# Altium footprint library SMD.PcbLib: 86 footprints (part 2 of 6)
Each footprint in its own frame and in the unit in brackets; x right, y up, seen from the top. Pads: shape width x height; smd on the part's side, far side on the other; paste and mask are expansions set on the pad; w line width, h text height; cw(c..) or ccw(c..) is an arc to the next point about the centre after c.
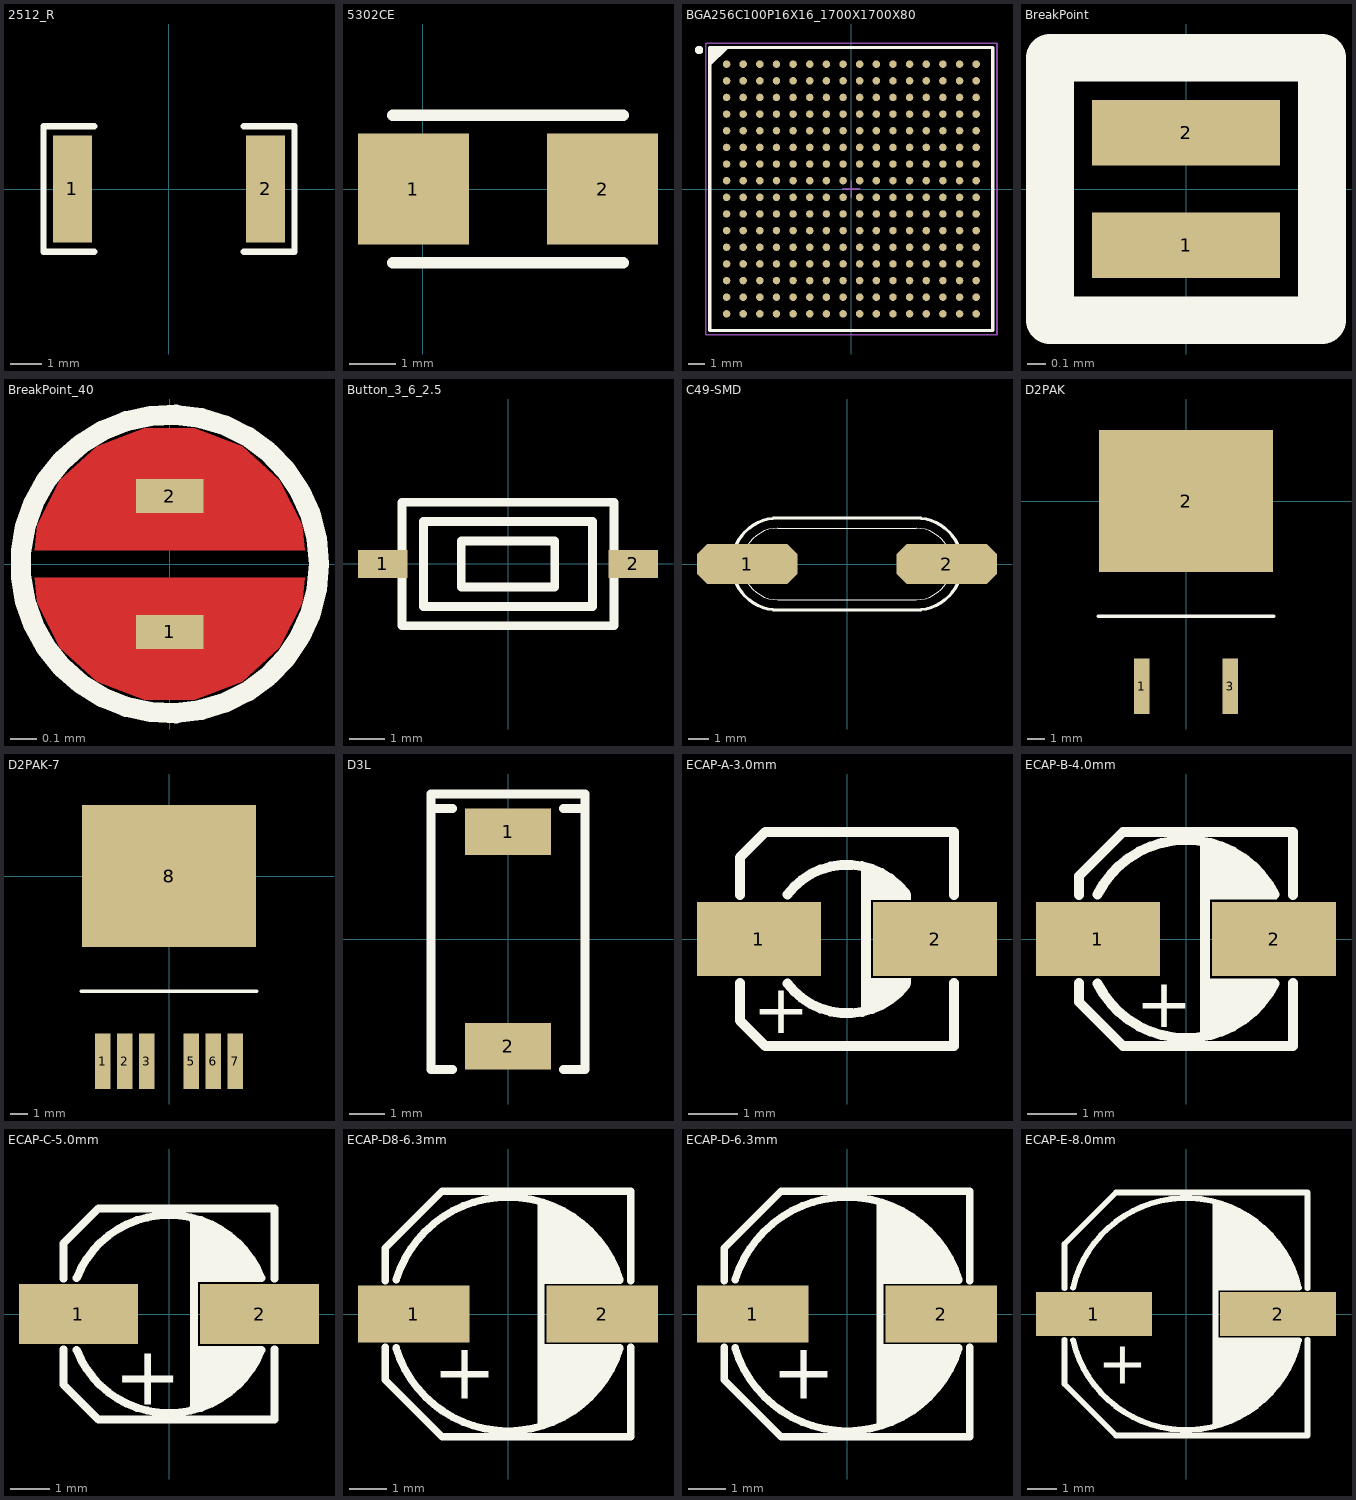
[diagram p1: the footprints below, top view; thin cyan lines are the x and y axes]

## 2512_R [mm]
pads (2):
  rect 1.25x3.42 smd: 1(-3.1,0) 2(3.1,0)
Top Overlay:
  lines w0.2: -2.4,-2.01 -4.025,-2.01 -4.025,2.01 -2.4,2.01 ; 2.4,-2.01 4.025,-2.01 4.025,2.01 2.4,2.01
3D body "User Library-res2512_body.STEP": height 0.62, standoff 0, extent -3.159,-1.6 3.16,1.6

## 5302CE [mm]
pads (2):
  rect 2.4x2.4 smd: 1(-0.2,0) 2(3.9,0)
Top Overlay:
  lines w0.254: -0.65,-1.6 4.35,-1.6 ; -0.65,1.6 4.35,1.6

## BGA256C100P16X16_1700X1700X80 [mm] "BGA, 256-Leads, Body 17.0x17.0mm,  Pitch 1.00mm"
height 0.8
pads (256):
  round 0.45 smd: A1(-7.5,7.5) A2(-6.5,7.5) A3(-5.5,7.5) A4(-4.5,7.5) A5(-3.5,7.5) A6(-2.5,7.5) A7(-1.5,7.5) A8(-0.5,7.5) A9(0.5,7.5) A10(1.5,7.5) A11(2.5,7.5) A12(3.5,7.5) A13(4.5,7.5) A14(5.5,7.5) A15(6.5,7.5) A16(7.5,7.5) B1(-7.5,6.5) B2(-6.5,6.5) B3(-5.5,6.5) B4(-4.5,6.5) B5(-3.5,6.5) B6(-2.5,6.5) B7(-1.5,6.5) B8(-0.5,6.5) B9(0.5,6.5) B10(1.5,6.5) B11(2.5,6.5) B12(3.5,6.5) B13(4.5,6.5) B14(5.5,6.5) B15(6.5,6.5) B16(7.5,6.5) C1(-7.5,5.5) C2(-6.5,5.5) C3(-5.5,5.5) C4(-4.5,5.5) C5(-3.5,5.5) C6(-2.5,5.5) C7(-1.5,5.5) C8(-0.5,5.5) C9(0.5,5.5) C10(1.5,5.5) C11(2.5,5.5) C12(3.5,5.5) C13(4.5,5.5) C14(5.5,5.5) C15(6.5,5.5) C16(7.5,5.5) D1(-7.5,4.5) D2(-6.5,4.5) D3(-5.5,4.5) D4(-4.5,4.5) D5(-3.5,4.5) D6(-2.5,4.5) D7(-1.5,4.5) D8(-0.5,4.5) D9(0.5,4.5) D10(1.5,4.5) D11(2.5,4.5) D12(3.5,4.5) D13(4.5,4.5) D14(5.5,4.5) D15(6.5,4.5) D16(7.5,4.5) E1(-7.5,3.5) E2(-6.5,3.5) E3(-5.5,3.5) E4(-4.5,3.5) E5(-3.5,3.5) E6(-2.5,3.5) E7(-1.5,3.5) E8(-0.5,3.5) E9(0.5,3.5) E10(1.5,3.5) E11(2.5,3.5) E12(3.5,3.5) E13(4.5,3.5) E14(5.5,3.5) E15(6.5,3.5) E16(7.5,3.5) F1(-7.5,2.5) F2(-6.5,2.5) F3(-5.5,2.5) F4(-4.5,2.5) F5(-3.5,2.5) F6(-2.5,2.5) F7(-1.5,2.5) F8(-0.5,2.5) F9(0.5,2.5) F10(1.5,2.5) F11(2.5,2.5) F12(3.5,2.5) F13(4.5,2.5) F14(5.5,2.5) F15(6.5,2.5) F16(7.5,2.5) G1(-7.5,1.5) G2(-6.5,1.5) G3(-5.5,1.5) G4(-4.5,1.5) G5(-3.5,1.5) G6(-2.5,1.5) G7(-1.5,1.5) G8(-0.5,1.5) G9(0.5,1.5) G10(1.5,1.5) G11(2.5,1.5) G12(3.5,1.5) G13(4.5,1.5) G14(5.5,1.5) G15(6.5,1.5) G16(7.5,1.5) H1(-7.5,0.5) H2(-6.5,0.5) H3(-5.5,0.5) H4(-4.5,0.5) H5(-3.5,0.5) H6(-2.5,0.5) H7(-1.5,0.5) H8(-0.5,0.5) H9(0.5,0.5) H10(1.5,0.5) H11(2.5,0.5) H12(3.5,0.5) H13(4.5,0.5) H14(5.5,0.5) H15(6.5,0.5) H16(7.5,0.5) J1(-7.5,-0.5) J2(-6.5,-0.5) J3(-5.5,-0.5) J4(-4.5,-0.5) J5(-3.5,-0.5) J6(-2.5,-0.5) J7(-1.5,-0.5) J8(-0.5,-0.5) J9(0.5,-0.5) J10(1.5,-0.5) J11(2.5,-0.5) J12(3.5,-0.5) J13(4.5,-0.5) J14(5.5,-0.5) J15(6.5,-0.5) J16(7.5,-0.5) K1(-7.5,-1.5) K2(-6.5,-1.5) K3(-5.5,-1.5) K4(-4.5,-1.5) K5(-3.5,-1.5) K6(-2.5,-1.5) K7(-1.5,-1.5) K8(-0.5,-1.5) K9(0.5,-1.5) K10(1.5,-1.5) K11(2.5,-1.5) K12(3.5,-1.5) K13(4.5,-1.5) K14(5.5,-1.5) K15(6.5,-1.5) K16(7.5,-1.5) L1(-7.5,-2.5) L2(-6.5,-2.5) L3(-5.5,-2.5) L4(-4.5,-2.5) L5(-3.5,-2.5) L6(-2.5,-2.5) L7(-1.5,-2.5) L8(-0.5,-2.5) L9(0.5,-2.5) L10(1.5,-2.5) L11(2.5,-2.5) L12(3.5,-2.5) L13(4.5,-2.5) L14(5.5,-2.5) L15(6.5,-2.5) L16(7.5,-2.5) M1(-7.5,-3.5) M2(-6.5,-3.5) M3(-5.5,-3.5) M4(-4.5,-3.5) M5(-3.5,-3.5) M6(-2.5,-3.5) M7(-1.5,-3.5) M8(-0.5,-3.5) M9(0.5,-3.5) M10(1.5,-3.5) M11(2.5,-3.5) M12(3.5,-3.5) M13(4.5,-3.5) M14(5.5,-3.5) M15(6.5,-3.5) M16(7.5,-3.5) N1(-7.5,-4.5) N2(-6.5,-4.5) N3(-5.5,-4.5) N4(-4.5,-4.5) N5(-3.5,-4.5) N6(-2.5,-4.5) N7(-1.5,-4.5) N8(-0.5,-4.5) N9(0.5,-4.5) N10(1.5,-4.5) N11(2.5,-4.5) N12(3.5,-4.5) N13(4.5,-4.5) N14(5.5,-4.5) N15(6.5,-4.5) N16(7.5,-4.5) P1(-7.5,-5.5) P2(-6.5,-5.5) P3(-5.5,-5.5) P4(-4.5,-5.5) P5(-3.5,-5.5) P6(-2.5,-5.5) P7(-1.5,-5.5) P8(-0.5,-5.5) P9(0.5,-5.5) P10(1.5,-5.5) P11(2.5,-5.5) P12(3.5,-5.5) P13(4.5,-5.5) P14(5.5,-5.5) P15(6.5,-5.5) P16(7.5,-5.5) R1(-7.5,-6.5) R2(-6.5,-6.5) R3(-5.5,-6.5) R4(-4.5,-6.5) R5(-3.5,-6.5) R6(-2.5,-6.5) R7(-1.5,-6.5) R8(-0.5,-6.5) R9(0.5,-6.5) R10(1.5,-6.5) R11(2.5,-6.5) R12(3.5,-6.5) R13(4.5,-6.5) R14(5.5,-6.5) R15(6.5,-6.5) R16(7.5,-6.5) T1(-7.5,-7.5) T2(-6.5,-7.5) T3(-5.5,-7.5) T4(-4.5,-7.5) T5(-3.5,-7.5) T6(-2.5,-7.5) T7(-1.5,-7.5) T8(-0.5,-7.5) T9(0.5,-7.5) T10(1.5,-7.5) T11(2.5,-7.5) T12(3.5,-7.5) T13(4.5,-7.5) T14(5.5,-7.5) T15(6.5,-7.5) T16(7.5,-7.5)
Top Overlay:
  circle w0.25: c-9.15,8.35 r0.125
  region: -7.5,8.5 -8.5,7.5 -8.5,8.5
  lines w0.2: -8.5,7.5 -7.5,8.5 ; -8.5,-8.5 8.5,-8.5 8.5,8.5 -8.5,8.5 -8.5,-8.5
Mechanical 13:
  lines w0.1: -8.5,-8.5 8.5,-8.5 8.5,8.5 -8.5,8.5 -8.5,-8.5
Mechanical 15:
  lines w0.1: -0.5,0 0.5,0 ; 0,-0.5 0,0.5 ; -8.75,-8.75 8.75,-8.75 8.75,8.75 -8.75,8.75 -8.75,-8.75
3D body: height 0.8, standoff 0.36, extent -8.5,-8.5 8.5,8.5

## BreakPoint [mm] "40mil"
pads (2):
  rect 1x0.35 smd: 1(0,-0.3) 2(0,0.3)
Top Overlay:
  lines w0.254: -0.725,-0.7 0.725,-0.7 0.725,0.7 -0.725,0.7 -0.725,-0.7

## BreakPoint_40 [mil] "40mil"
pads (2):
  rect 10x5 smd: 1(0,-10) 2(0,10)
Top Layer:
  region: -20,-2 20,-2 19.9,-1.99 19.53,-5.69 16.18,-12.33 10.66,-17.32 3.72,-20 -3.72,-20 -10.66,-17.32 -16.18,-12.33 -19.53,-5.69 -19.9,-1.99
  region: 20,2 -20,2 -19.9,1.99 -19.53,5.69 -16.18,12.33 -10.66,17.32 -3.72,20 3.72,20 10.66,17.32 16.18,12.33 19.53,5.69 19.9,1.99
Top Overlay:
  circle w3: c0,0 r22
Top Paste:
  region: -20,-2 20,-2 19.9,-1.99 19.53,-5.69 16.18,-12.33 10.66,-17.32 3.72,-20 -3.72,-20 -10.66,-17.32 -16.18,-12.33 -19.53,-5.69 -19.9,-1.99
  region: 20,2 -20,2 -19.9,1.99 -19.53,5.69 -16.18,12.33 -10.66,17.32 -3.72,20 3.72,20 10.66,17.32 16.18,12.33 19.53,5.69 19.9,1.99
Top Solder:
  region: -22.22,0 21.78,0 21.78,-4.38 18.44,-12.46 12.25,-18.65 4.16,-22 -4.59,-22 -12.68,-18.65 -18.87,-12.46 -22.22,-4.38
  region: 21.78,0 -22.22,0 -22.22,4.38 -18.87,12.46 -12.68,18.65 -4.59,22 4.16,22 12.25,18.65 18.44,12.46 21.78,4.38

## Button_3_6_2.5 [mm]
height 2.5
pads (2):
  rect 1.4x0.8 smd: 1(-3.55,0) 2(3.55,0)
Top Overlay:
  lines w0.254: -3,-1.75 -3,1.75 3,1.75 3,-1.75 -3,-1.75 ; -2.4,-1.2 2.4,-1.2 2.4,1.2 -2.4,1.2 -2.4,-1.2 ; -1.325,-0.65 1.325,-0.65 1.325,0.65 -1.325,0.65 -1.325,-0.65
3D body: height 1.75, standoff 1.5, extent -2.399,-1.199 2.399,1.199
3D body: height 1.5, standoff 0, extent -3.127,-1.877 3.127,1.877
3D body: height 2.5, standoff 1.5, extent -1.324,-0.649 1.324,0.649

## C49-SMD [mm] "Quartz Crystal  PTH HC49 SMD"
pads (2):
  oct 5x2 smd: 1(-4.953,0) 2(4.953,0)
Top Overlay:
  lines w0.051: -3.429,-1.778 cw(c-3.429,0) -3.429,1.778 3.429,1.778 cw(c3.429,0) 3.429,-1.778 -3.429,-1.778
  lines w0.152: -3.429,-2.286 cw(c-3.429,0) -3.429,2.286 3.429,2.286 cw(c3.429,0) 3.429,-2.286 -3.429,-2.286
3D body "User Library-Crystal-HC49_US-SM.step": height 4.3, standoff 0, extent -6.4,-2.415 6.4,2.415

## D2PAK [mm]
pads (3):
  rect 0.9x3.2 smd: 1(-2.54,-10.625) 3(2.54,-10.625)
  rect 10x8.15 smd: 2(0,0)
Top Overlay:
  lines w0.2: -5.05,-6.6 5.05,-6.6
3D body: height 0.5, standoff 0.1, extent 2.165,-11.2 2.915,-8.7
3D body: height 0.5, standoff 0.1, extent -2.915,-11.2 -2.165,-8.7
3D body: height 3, standoff 0.1, extent 2.165,-8.7 2.915,-8.3
3D body: height 3, standoff 0.1, extent -2.915,-8.7 -2.165,-8.3
3D body: height 3, standoff 2.6, extent -2.915,-8.3 -2.165,-6.6
3D body: height 3, standoff 2.6, extent 2.165,-8.3 2.915,-6.6
3D body: height 3, standoff 2.6, extent -0.375,-8.3 0.375,-6.6
3D body: height 1.5, standoff 0.1, extent -5.05,2.4 5.05,4.1
3D body: height 4.4, standoff 0.1, extent -5.05,-6.6 5.05,2.4

## D2PAK-7 [mm]
pads (7):
  rect 0.9x3.2 smd: 1(-3.81,-10.625) 2(-2.54,-10.625) 3(-1.27,-10.625) 5(1.27,-10.625) 6(2.54,-10.625) 7(3.81,-10.625)
  rect 10x8.15 smd: 8(0,0)
Top Overlay:
  lines w0.2: -5.05,-6.6 5.05,-6.6
3D body: height 4.4, standoff 0.1, extent -5.05,-6.6 5.05,2.4
3D body: height 1.5, standoff 0.1, extent -5.05,2.4 5.05,4.1
3D body: height 3, standoff 2.6, extent -0.375,-8.3 0.375,-6.6
3D body: height 3, standoff 2.6, extent 0.895,-8.3 1.645,-6.6
3D body: height 3, standoff 2.6, extent 2.165,-8.3 2.915,-6.6
3D body: height 3, standoff 2.6, extent 3.435,-8.3 4.185,-6.6
3D body: height 3, standoff 2.6, extent -1.645,-8.3 -0.895,-6.6
3D body: height 3, standoff 2.6, extent -2.915,-8.3 -2.165,-6.6
3D body: height 3, standoff 2.6, extent -4.185,-8.3 -3.435,-6.6
3D body: height 3, standoff 0.1, extent -4.185,-8.7 -3.435,-8.3
3D body: height 3, standoff 0.1, extent -2.915,-8.7 -2.165,-8.3
3D body: height 3, standoff 0.1, extent -1.645,-8.7 -0.895,-8.3
3D body: height 3, standoff 0.1, extent 0.895,-8.7 1.645,-8.3
3D body: height 3, standoff 0.1, extent 2.165,-8.7 2.915,-8.3
3D body: height 3, standoff 0.1, extent 3.435,-8.7 4.185,-8.3
3D body: height 0.5, standoff 0.1, extent -4.185,-11.2 -3.435,-8.7
3D body: height 0.5, standoff 0.1, extent -2.915,-11.2 -2.165,-8.7
3D body: height 0.5, standoff 0.1, extent -1.645,-11.2 -0.895,-8.7
3D body: height 0.5, standoff 0.1, extent 0.895,-11.2 1.645,-8.7
3D body: height 0.5, standoff 0.1, extent 2.165,-11.2 2.915,-8.7
3D body: height 0.5, standoff 0.1, extent 3.435,-11.2 4.185,-8.7

## D3L [mm]
pads (2):
  rect 2.4x1.3 smd: 1(0,3) 2(0,-3)
Top Overlay:
  lines w0.254: -1.557,-3.65 -2.15,-3.65 -2.15,3.65 ; -1.557,3.65 -2.15,3.65 ; 1.557,-3.65 2.15,-3.65 2.15,3.65 ; 1.557,3.65 2.15,3.65 ; -2.15,3.65 -2.15,4.055 2.15,4.055 2.15,3.65
3D body "CAP_TANT_7343-31.step": height 3.1, standoff 0, extent -2.3,-3.805 2.3,3.795

## ECAP-A-3.0mm [mm] "贴片铝电容-A"
height 5.4
pads (2):
  rect 2.5x1.5 smd: 1(-1.778,0) 2(1.778,0)
Top Overlay:
  region: 0.394,-0.787 1.283,-0.787 1.283,-0.914 1.029,-1.168 0.648,-1.422 0.394,-1.422
  region: 0.394,0.787 1.283,0.787 1.283,0.914 1.029,1.168 0.648,1.422 0.394,1.422
  lines w0.2: -2.159,-0.889 -2.159,-1.651 -1.651,-2.159 2.159,-2.159 2.159,-0.889 ; -2.159,0.889 -2.159,1.651 -1.651,2.159 2.159,2.159 2.159,0.889 ; -1.203,-0.896 ccw(c0,0) 1.184,-0.921 ; -1.203,0.896 cw(c0,0) 1.181,0.924 ; 0.381,-1.397 0.381,1.397
  text "+" at -1.905,-1.905 h1
3D body "User Library-capacitor size A.step": height 5.71, standoff 0.01, extent -2.35,-2.141 2.35,2.159

## ECAP-B-4.0mm [mm] "贴片铝电容-B"
height 5.4
pads (2):
  rect 2.5x1.5 smd: 1(-1.778,0) 2(1.778,0)
Top Overlay:
  region: 0.381,0.8 1.829,0.8 1.651,1.181 1.143,1.689 0.635,1.943 0.381,1.943
  region: 0.368,-0.8 1.816,-0.8 1.638,-1.181 1.13,-1.689 0.622,-1.943 0.368,-1.943
  lines w0.2: -2.159,-0.889 -2.159,-1.27 -1.27,-2.159 2.159,-2.159 2.159,-0.889 ; -2.159,0.889 -2.159,1.27 -1.27,2.159 2.159,2.159 2.159,0.889 ; -1.789,-0.894 ccw(c0,0) 1.789,-0.894 ; -1.789,0.894 cw(c0,0) 1.789,0.894 ; 0.381,-1.905 0.381,1.905
  text "+" at -1.016,-1.778 h1
3D body "User Library-capacitor size B.step": height 5.41, standoff -0.01, extent -2.3,-2.15 2.3,2.15

## ECAP-C-5.0mm [mil] "贴片铝电容-C"
height 212.6
pads (2):
  rect 118.11x60 smd: 1(-90,0) 2(90,0)
Top Overlay:
  region: 25,-32 92,-32 82,-55 62,-78 32,-93 25,-95
  region: 25,32 92,32 82,55 62,78 32,93 25,95
  lines w7.87: -105,-35 -105,-70 -70,-105 105,-105 105,-35 ; -105,35 -105,70 -70,105 105,105 105,35 ; -91.73,-35.67 ccw(c0,0) 91.73,-35.67 ; -91.73,35.67 cw(c0,0) 91.73,35.67 ; 25,-95 25,95
  text "+" at -55,-90 h59.06
3D body "User Library-capacitor size C.step": height 212.8, standoff -0.2, extent -116.14,-104.33 116.14,104.33

## ECAP-D8-6.3mm [mm] "贴片铝电容-D8"
height 7.7
pads (2):
  rect 3x1.524 smd: 1(-2.54,0) 2(2.54,0)
Top Overlay:
  region: 3.01,-0.813 0.902,-0.813 0.902,-3.023 1.359,-2.87 2.07,-2.413 2.553,-1.88 3.01,-0.94
  region: 3.01,0.813 0.902,0.813 0.902,3.023 1.359,2.87 2.07,2.413 2.553,1.88 3.01,0.94
  lines w0.2: -3.302,-0.889 -3.302,-1.778 -1.778,-3.302 3.302,-3.302 3.302,-0.889 ; -3.302,0.889 -3.302,1.778 -1.778,3.302 3.302,3.302 3.302,0.889 ; -3.015,-0.912 ccw(c0,0) 3.015,-0.912 ; -3.014,0.917 cw(c0,0) 3.015,0.912 ; 0.889,-2.921 0.889,2.921
  text "+" at -2.032,-2.286 h1.5
3D body "User Library-capacitor size D8.step": height 7.71, standoff -0.01, extent -3.5,-3.3 3.5,3.3

## ECAP-D-6.3mm [mm] "贴片铝电容-D"
height 5.4
pads (2):
  rect 3x1.524 smd: 1(-2.54,0) 2(2.54,0)
Top Overlay:
  region: 3.01,0.813 0.902,0.813 0.902,3.023 1.359,2.87 2.07,2.413 2.553,1.88 3.01,0.94
  region: 3.01,-0.813 0.902,-0.813 0.902,-3.023 1.359,-2.87 2.07,-2.413 2.553,-1.88 3.01,-0.94
  lines w0.2: -3.302,-0.889 -3.302,-1.778 -1.778,-3.302 3.302,-3.302 3.302,-0.889 ; -3.302,0.889 -3.302,1.778 -1.778,3.302 3.302,3.302 3.302,0.889 ; -3.015,-0.912 ccw(c0,0) 3.015,-0.912 ; -3.014,0.917 cw(c0,0) 3.015,0.912 ; 0.889,-2.921 0.889,2.921
  text "+" at -2.032,-2.286 h1.5
3D body "User Library-capacitor size D.step": height 5.41, standoff -0.01, extent -3.5,-3.3 3.5,3.3

## ECAP-E-8.0mm [mm] "贴片铝电容-E"
height 6.2
pads (2):
  rect 4x1.524 smd: 1(-3.175,0) 2(3.175,0)
Top Overlay:
  region: 1.016,-0.813 3.912,-0.813 3.632,-1.702 2.921,-2.718 2.032,-3.454 1.194,-3.785 1.016,-3.81
  region: 1.016,0.813 3.912,0.813 3.632,1.702 2.921,2.718 2.032,3.454 1.194,3.785 1.016,3.81
  lines w0.2: -4.191,-0.889 -4.191,-2.413 -2.413,-4.191 4.191,-4.191 4.191,-0.889 ; -4.191,0.889 -4.191,2.413 -2.413,4.191 4.191,4.191 4.191,0.889 ; -3.895,-0.909 ccw(c0,0) 3.895,-0.909 ; -3.895,0.909 cw(c0,0) 3.895,0.909 ; 1.016,-3.81 1.016,3.81
  text "+" at -3.048,-2.413 h1.5
3D body "User Library-capacitor size E.step": height 6.2, standoff -0.01, extent -4.5,-4.15 4.5,4.15